# Altium footprint library 1.44LCD.PcbLib: 1 footprints
Each footprint in its own frame and in the unit in brackets; x right, y up, seen from the top. Pads: shape width x height; smd on the part's side, far side on the other; paste and mask are expansions set on the pad; w line width, h text height; cw(c..) or ccw(c..) is an arc to the next point about the centre after c.
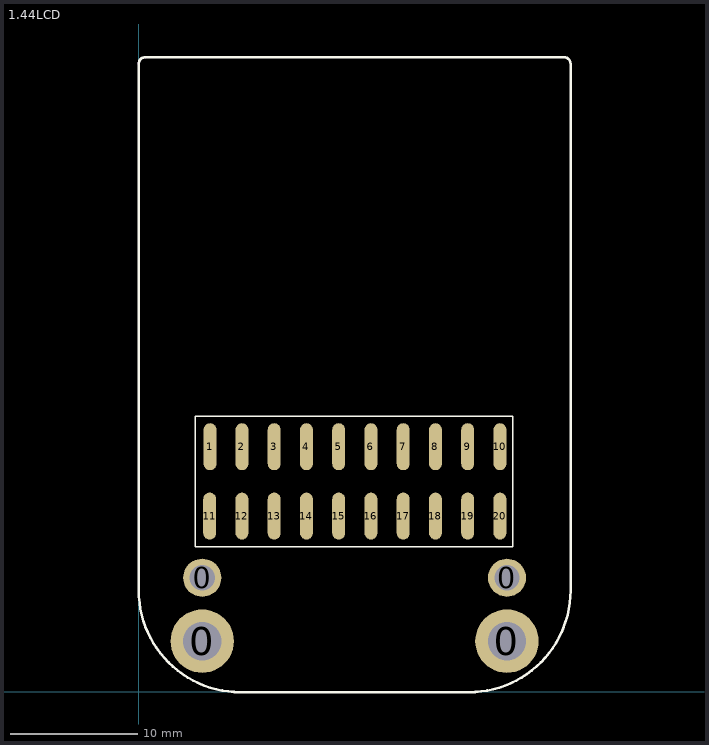
[diagram p0: the footprint, top view; thin cyan lines are the x and y axes]

## 1.44LCD [mm]
pads (29):
  round 5 hole 3: 0(5,3.989) 0(29,3.989)
  round 3 hole 2: 0(5,8.989) 0(29,8.989)
  round 0.2 on Mech1: 1(0,49.489) 1(0.005,49.475) 1(0.5,49.989) 1(0.505,49.975)
  round 0 on Mech1: 1(5.07,20.597)
  oval 1.02x3.7 smd: 1(5.618,19.304) 2(8.128,19.304) 3(10.668,19.304) 4(13.208,19.304) 5(15.748,19.304) 6(18.288,19.304) 7(20.828,19.304) 8(23.368,19.304) 9(25.908,19.304) 10(28.448,19.304) 11(5.588,13.843) 12(8.128,13.843) 13(10.668,13.843) 14(13.208,13.843) 15(15.748,13.843) 16(18.288,13.843) 17(20.828,13.843) 18(23.368,13.843) 19(25.908,13.843) 20(28.448,13.843)
Top Overlay:
  lines w0.102: 4.445,11.43 4.445,21.717 29.464,21.717 29.464,11.43 4.445,11.43
  lines w0.2: 0.005,7.975 ccw(c8.005,7.975) 8.005,-0.025 26.005,-0.025 ccw(c26.005,7.975) 34.005,7.975 34.005,49.475 ccw(c33.505,49.475) 33.505,49.975 0.505,49.975 ccw(c0.505,49.475) 0.005,49.475 0.005,7.975
Mechanical 26:
  lines w0.051: 4.746,3.989 5.254,3.989 4.746,3.989 ; 4.746,8.989 5.254,8.989 4.746,8.989 ; 5,3.735 5,4.243 5,3.735 ; 5,8.735 5,9.243 5,8.735 ; 28.746,3.989 29.254,3.989 28.746,3.989 ; 28.746,8.989 29.254,8.989 28.746,8.989 ; 29,3.735 29,4.243 29,3.735 ; 29,8.735 29,9.243 29,8.735
Mechanical 29: